# Altium footprint library TDK-VLS252010_V.PcbLib: 1 footprints
Each footprint in its own frame and in the unit in brackets; x right, y up, seen from the top. Pads: shape width x height; smd on the part's side, far side on the other; paste and mask are expansions set on the pad; w line width, h text height; cw(c..) or ccw(c..) is an arc to the next point about the centre after c.
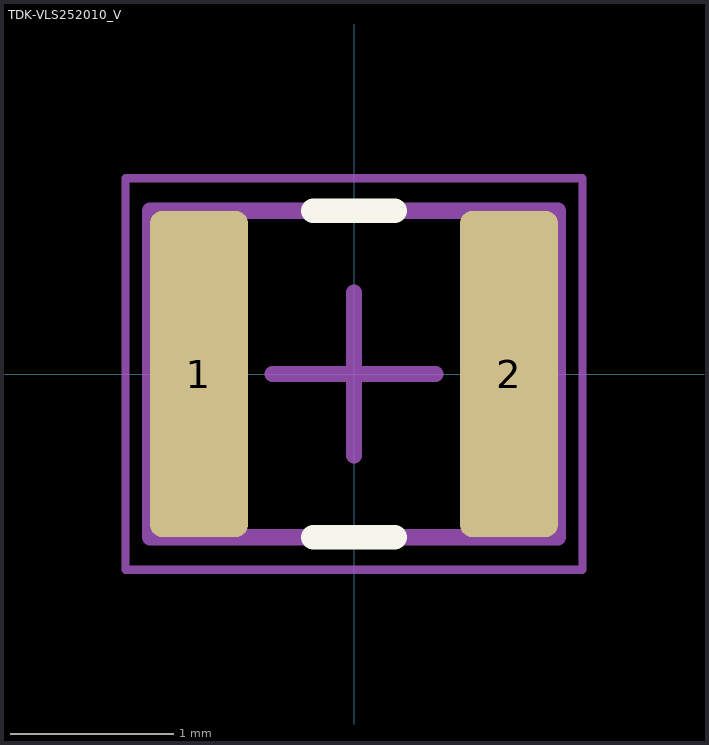
[diagram p0: the footprint, top view; thin cyan lines are the x and y axes]

## TDK-VLS252010_V [mm] "SMD, 2-Leads, Body 2.5x2mm"
height 1
pads (2):
  rrect25% 0.6x2 smd: 1(-0.95,0) 2(0.95,0)
Top Overlay:
  lines w0.15: -0.25,-1 0.25,-1 ; -0.25,1 0.25,1
Top 3D Body:
  lines w0.1: -1.25,-1 -1.25,1 1.25,1 1.25,-1 -1.25,-1
Top Courtyard:
  lines w0.05: -1.4,-1.2 1.4,-1.2 1.4,1.2 -1.4,1.2 -1.4,-1.2
  lines w0.1: -0.5,0 0.5,0 ; 0,-0.5 0,0.5
Mechanical 19:
  text ".Designator" at -1.27,-0.127 h0.6
3D body "IND_252010.STEP": height 1, standoff -0.01, extent -1.25,-1 1.25,1